# Altium footprint library lib_pcb_all.PcbLib: 12 footprints
Each footprint in its own frame and in the unit in brackets; x right, y up, seen from the top. Pads: shape width x height; smd on the part's side, far side on the other; paste and mask are expansions set on the pad; w line width, h text height; cw(c..) or ccw(c..) is an arc to the next point about the centre after c.
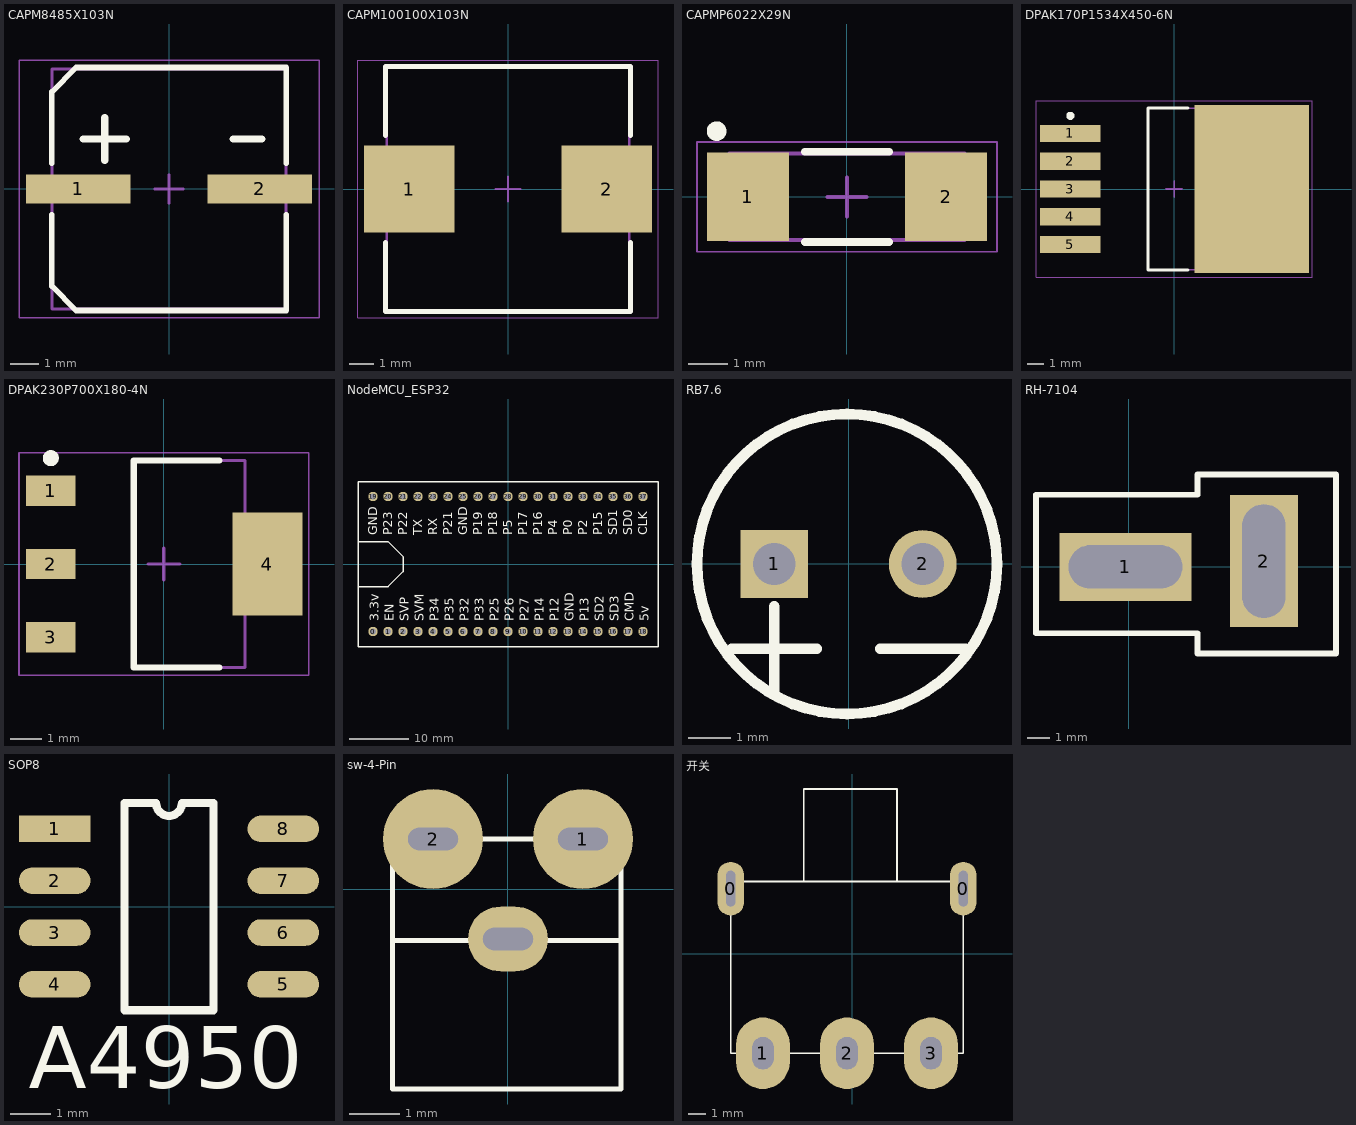
[diagram p0: the footprints below, top view; thin cyan lines are the x and y axes]

## CAPM8485X103N [mm] "Molded Capacitor, 2-Leads, Body 8.40x8.50mm, IPC Medium Density"
height 10.3
pads (2):
  rect 3.65x1 smd: 1(-3.175,0) 2(3.175,0)
Top Overlay:
  lines w0.2: -4.1,-0.9 -4.1,-3.4 -3.25,-4.25 4.1,-4.25 4.1,-0.9 ; -4.1,0.9 -4.1,3.4 -3.25,4.25 -2.25,4.25 4.1,4.25 4.1,0.9
  lines w0.254: -3,1.75 -1.5,1.75 ; -2.25,1 -2.25,2.5 ; 2.25,1.75 3.25,1.75
Mechanical 13:
  lines w0.1: -4.1,-4.2 4.1,-4.2 4.1,4.2 -4.1,4.2 -4.1,-4.2
Mechanical 15:
  lines w0.05: -5.25,-4.5 5.25,-4.5 5.25,4.5 -5.25,4.5 -5.25,-4.5
  lines w0.1: -0.5,0 0.5,0 ; 0,-0.5 0,0.5
3D body: height 10.3, standoff 0, extent -4.1,-4.2 4.1,4.2

## CAPM100100X103N [mm] "Molded Capacitor, 2-Leads, Body 10.00x10.00mm, IPC Medium Density"
height 10.3
pads (2):
  rect 3.65x3.5 smd: 1(-3.975,0) 2(3.975,0)
Top Overlay:
  lines w0.2: -4.95,-2.15 -4.95,-4.95 4.95,-4.95 4.95,-2.15 ; -4.95,2.15 -4.95,4.95 4.95,4.95 4.95,2.15
Mechanical 13:
  lines w0.1: -4.9,-4.9 -4.9,4.9 4.9,4.9 4.9,-4.9 -4.9,-4.9
Mechanical 15:
  lines w0.05: -6.05,-5.2 -6.05,5.2 6.05,5.2 6.05,-5.2 -6.05,-5.2
  lines w0.1: -0.5,0 0.5,0 ; 0,-0.5 0,0.5
3D body: height 10.3, standoff 0, extent -4.9,-4.9 4.9,4.9

## CAPMP6022X29N [mm] "Molded Capacitor, 2-Leads, Body 6.00x2.20mm, IPC Medium Density"
height 2.9
pads (2):
  rect 2.1x2.25 smd: 1(-2.525,0) 2(2.525,0)
Top Overlay:
  circle w0.25: c-3.325,1.675 r0.125
  lines w0.2: -1.075,-1.15 1.075,-1.15 ; -1.075,1.15 1.075,1.15
Mechanical 13:
  rectangle: -3,-1.1 -2.193,1.1
  lines w0.1: -3,-1.1 -3,1.1 3,1.1 3,-1.1 -3,-1.1
Mechanical 15:
  lines w0.05: -3.825,-1.4 -3.825,1.4 3.825,1.4 3.825,-1.4 -3.825,-1.4
  lines w0.1: -0.5,0 0.5,0 ; 0,-0.5 0,0.5
3D body: height 2.9, standoff 0, extent -3,-1.1 3,1.1

## DPAK170P1534X450-6N [mm] "D2-PAK, 6-Pads, Body 7.20x8.30mm (max), IPC Medium Density"
height 4.5
pads (6):
  rect 3.7x1.05 smd: 1(-6.35,3.4) 2(-6.35,1.7) 3(-6.35,0) 4(-6.35,-1.7) 5(-6.35,-3.4)
  rect 7x10.3 smd: ""(4.75,0)
Top Overlay:
  circle w0.25: c-6.35,4.475 r0.125
  lines w0.2: 0.85,-4.95 -1.6,-4.95 -1.6,4.95 0.85,4.95
Mechanical 13:
  lines w0.1: -1.6,-4.95 -1.6,4.95 6.6,4.95 6.6,-4.95 -1.6,-4.95
Mechanical 15:
  lines w0.05: -8.45,-5.4 -8.45,5.4 8.45,5.4 8.45,-5.4 -8.45,-5.4
  lines w0.1: -0.5,0 0.5,0 ; 0,-0.5 0,0.5
3D body: height 4.5, standoff 0.1, extent -1.6,-4.95 6.6,4.95

## DPAK230P700X180-4N [mm] "TO, 4-Pads, Body 4.85x6.61mm (max), IPC Medium Density"
height 1.8
pads (4):
  rect 1.55x0.95 smd: 1(-3.55,2.3) 2(-3.55,0) 3(-3.55,-2.3)
  rect 2.2x3.25 smd: 4(3.25,0)
Top Overlay:
  circle w0.25: c-3.55,3.325 r0.125
  lines w0.2: 1.75,-3.25 -0.95,-3.25 -0.95,3.25 1.75,3.25
Mechanical 13:
  lines w0.1: -0.95,-3.25 2.55,-3.25 2.55,3.25 -0.95,3.25 -0.95,-3.25
Mechanical 15:
  lines w0.05: -4.55,-3.5 4.55,-3.5 4.55,3.5 -4.55,3.5 -4.55,-3.5
  lines w0.1: -0.5,0 0.5,0 ; 0,-0.5 0,0.5
3D body: height 1.8, standoff 0.26, extent -0.95,-3.25 2.55,3.25

## NodeMCU_ESP32 [mm]
pads (38):
  round 1.6 hole 1: 0(-22.86,-11.43) 1(-20.32,-11.43) 2(-17.78,-11.43) 3(-15.24,-11.43) 4(-12.7,-11.43) 5(-10.16,-11.43) 6(-7.62,-11.43) 7(-5.08,-11.43) 8(-2.54,-11.43) 9(0,-11.43) 10(2.54,-11.43) 11(5.08,-11.43) 12(7.62,-11.43) 13(10.16,-11.43) 14(12.7,-11.43) 15(15.24,-11.43) 16(17.78,-11.43) 17(20.32,-11.43) 18(22.86,-11.43) 19(-22.86,11.43) 20(-20.32,11.43) 21(-17.78,11.43) 22(-15.24,11.43) 23(-12.7,11.43) 24(-10.16,11.43) 25(-7.62,11.43) 26(-5.08,11.43) 27(-2.54,11.43) 28(0,11.43) 29(2.54,11.43) 30(5.08,11.43) 31(7.62,11.43) 32(10.16,11.43) 33(12.7,11.43) 34(15.24,11.43) 35(17.78,11.43) 36(20.32,11.43) 37(22.86,11.43)
Top Overlay:
  lines w0.254: -25.4,-3.81 -20.32,-3.81 -17.78,-1.27 -17.78,1.27 -20.32,3.81 -25.4,3.81 ; -25.4,-13.97 25.4,-13.97 25.4,13.97 -25.4,13.97 -25.4,-13.97
  text "CLK" at 23.61,4.86 h1.52
  text "SD0" at 21.07,4.86 h1.52
  text "SD1" at 18.53,4.86 h1.52
  text "P15" at 15.99,4.86 h1.52
  text "P2" at 13.45,4.86 h1.52
  text "P0" at 10.91,4.86 h1.52
  text "P4" at 8.37,4.86 h1.52
  text "P16" at 5.83,4.86 h1.52
  text "P17" at 3.29,4.86 h1.52
  text "P5" at 0.75,4.86 h1.52
  text "P18" at -1.79,4.86 h1.52
  text "P19" at -4.33,4.86 h1.52
  text "GND" at -6.87,4.86 h1.52
  text "P21" at -9.41,4.86 h1.52
  text "RX" at -11.95,4.86 h1.52
  text "TX" at -14.49,4.86 h1.52
  text "P22" at -17.03,4.86 h1.52
  text "P23" at -19.57,4.86 h1.52
  text "GND" at -22.11,4.86 h1.52
  text "EN" at -19.32,-9.69 h1.52
  text "3.3v" at -21.86,-9.69 h1.52
  text "SVP" at -16.78,-9.69 h1.52
  text "SVM" at -14.24,-9.69 h1.52
  text "P34" at -11.7,-9.69 h1.52
  text "P35" at -9.16,-9.69 h1.52
  text "P32" at -6.62,-9.69 h1.52
  text "P33" at -4.08,-9.69 h1.52
  text "P25" at -1.54,-9.69 h1.52
  text "P26" at 1,-9.69 h1.52
  text "P27" at 3.54,-9.69 h1.52
  text "P14" at 6.08,-9.69 h1.52
  text "P12" at 8.62,-9.69 h1.52
  text "GND" at 11.16,-9.69 h1.52
  text "P13" at 13.7,-9.69 h1.52
  text "SD2" at 16.24,-9.69 h1.52
  text "SD3" at 18.78,-9.69 h1.52
  text "CMD" at 21.32,-9.69 h1.52
  text "5v" at 23.86,-9.69 h1.52

## PCBComponent_1 [mm]

## RB7.6 [mm]
pads (2):
  rect 1.6x1.6 hole 1: 1(-1.75,0)
  round 1.6 hole 1: 2(1.75,0)
Top Overlay:
  circle w0.254: c-0.036,0 r3.536
  lines w0.254: -2.75,-2 -1.25,-2 -0.75,-2 ; -1.75,-3 -1.75,-1 ; 0.75,-2 2.75,-2

## RH-7104 [mm]
pads (2):
  rect 5.8x3 hole 1.9 slot 5 at 0 deg: 1(-0.15,-0.001)
  rect 3x5.8 hole 1.9 slot 5 at 90 deg: 2(5.946,0.253)
Top Overlay:
  lines w0.254: -4.087,-2.922 3.025,-2.922 3.025,-3.811 9.121,-3.811 9.121,4.063 3.025,4.063 3.025,3.174 -4.087,3.174 -4.087,-2.922

## SOP8 [mm]
pads (8):
  rect 1.75x0.65 smd: 1(-2.8,1.905)
  oval 1.75x0.65 smd: 2(-2.8,0.635) 3(-2.8,-0.635) 4(-2.8,-1.905) 5(2.8,-1.905) 6(2.8,-0.635) 7(2.8,0.635) 8(2.8,1.905)
Top Overlay:
  lines w0.2: -1.09,-2.54 1.09,-2.54 1.09,2.54 0.318,2.54 cw(c0,2.54) -0.318,2.54 -1.09,2.54 -1.09,-2.54
  text "A4950" at -3.435,-4.445 h1.52

## sw-4-Pin [mm]
pads (3):
  round 2 hole 0.45 slot 1 at 0 deg: 1(1.5,1) 2(-1.5,1)
  oval 1.6x1.3 hole 0.45 slot 1 at 0 deg: ""(0,-1)
Top Overlay:
  lines w0.1: -2.31,-1.032 2.262,-1.032 ; -2.31,-4 2.262,-4 2.262,1 -2.31,1 -2.31,-4

## 开关 [mm]
pads (5):
  oval 1.5x3 hole 0.5 slot 2 at 90 deg: 0(-6.784,3.649) 0(6.216,3.649)
  oval 3x4 hole 1.2 slot 1.8 at 90 deg: 1(-4.984,-5.551) 2(-0.284,-5.551) 3(4.416,-5.551)
Top Overlay:
  lines w0.1: -2.698,4.05 -2.698,9.219 2.509,9.219 2.509,4.076 ; -6.784,-5.551 -6.784,4.05 6.216,4.05 6.216,-5.551 -6.784,-5.551